# Altium schematic symbol library schematics_library_legacy.schlib: 31 symbols
Pins are listed as number, name and electrical type; pins without a type are passive.

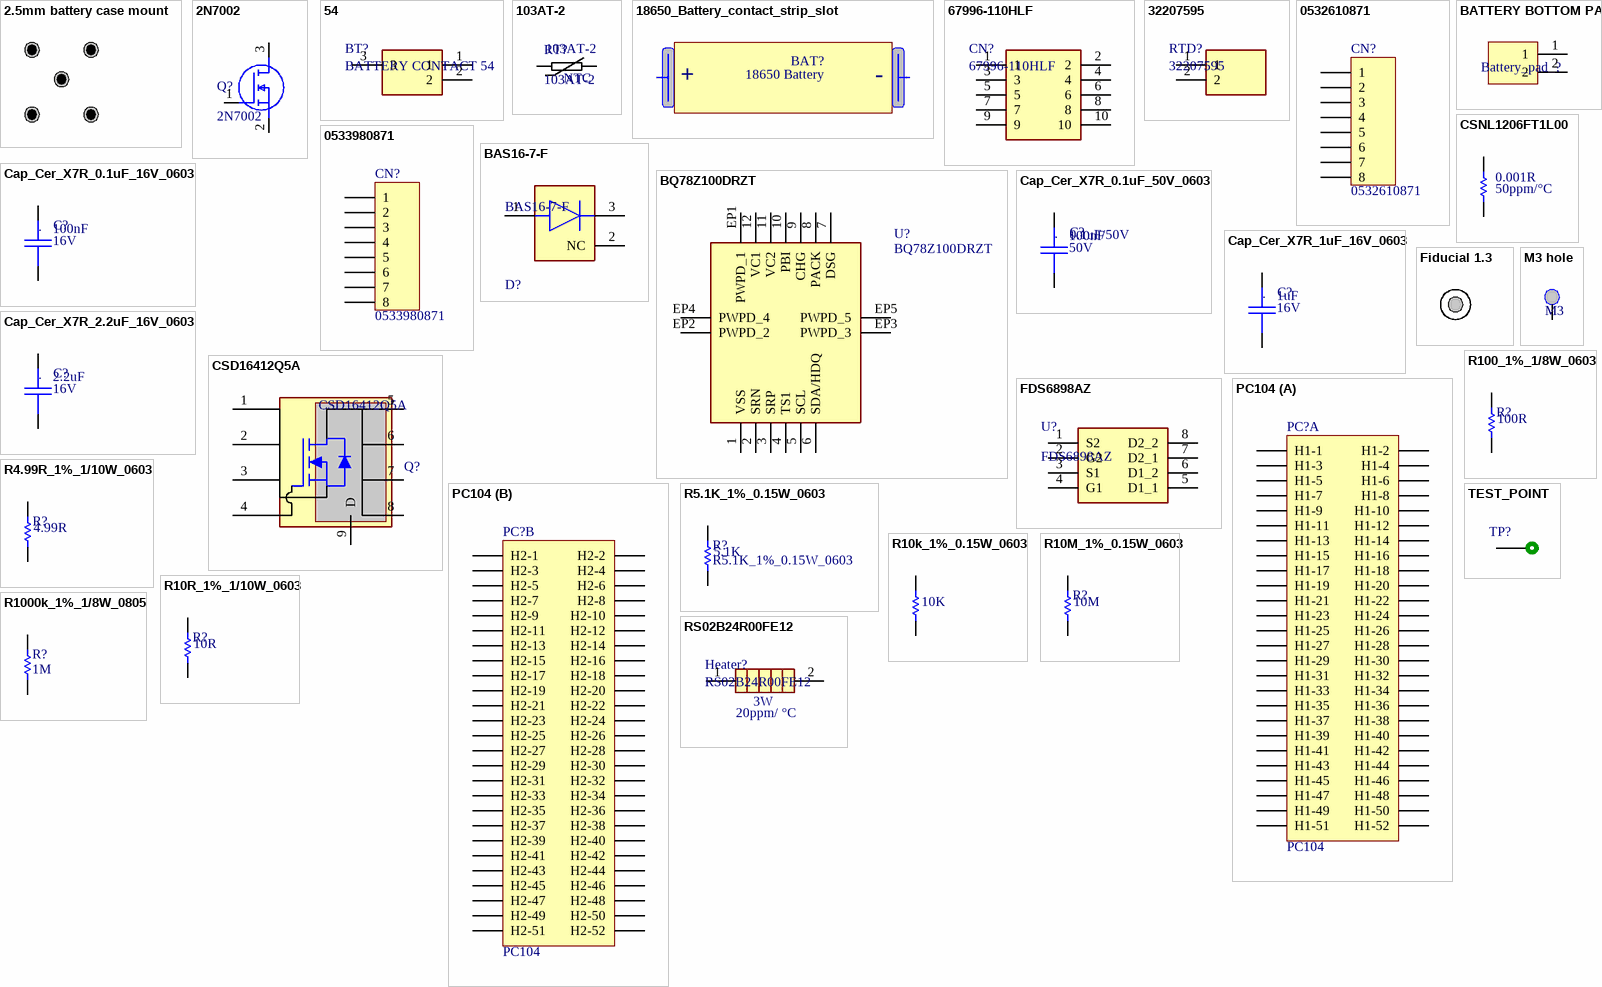
[diagram p0: symbols 2.5mm battery case mount to TEST_POINT]

## 2.5mm battery case mount
designator MEC?  (value not drawn)  (no BOM)
footprint 2.5mm holes battery case mount
pins: 0

## 2N7002
designator Q?
MOSFET N-CH 60V 200MA SOT23-3; Manufacturer_Name: Vishay; Datasheet Link: https://www.diodes.com/assets/Datasheets/ds11303.pdf; Height: 1.2mm; Manufacturer_Part_Number: 2N7002; Mouser Part Number: 781-2N7002; Mouser Price/Stock: https://www.mouser.co.uk/ProductDetail/Vishay-Siliconix/2N7002?qs=xBpwZ0JX2zKeuvZKtdYLZQ%3D%3D; Partnumber: 2N7002
footprint SOT23-3
pins: 1 G, 2 S, 3 D

## 54
designator BT?, comment BATTERY CONTACT 54
Battery Contact Clip 18650 1 Cell PC Pin; Manufacturer_Name: Keystone Electronics; Manufacturer_Part_Number: 54; Datasheet Link: http://www.farnell.com/datasheets/1703960.pdf; Arrow Part Number: 54; Mouser Part Number: 534-54; Mouser Price/Stock: https://www.mouser.co.uk/ProductDetail/Keystone-Electronics/54?qs=73q%2FgRcW4F3NakoJDesViw%3D%3D
footprint 54_BATTERY_CONTACT
pins: 1, 2, 3

## 103AT-2
designator RT?  Type: NTC
Precision NTC Thermistor, 10 kOhm, +/- 1%, 10 mW, -50 to 110 degC, 2-Pin THD, RoHS, Bulk; Brand: Semitec; Packaging: Bulk; Mounting Technology: ThroughHole; Operating Temperature Range: -50Cto+110C; Lead Spacing: 2.54mm; RoHS: True; Manufacturer URL: http://www.semitec.co.jp/english/; Datasheet Version: Rev. A, 02/2007; Length: 17mm; Manufacturer: Semitec; Termination Style: Radial; Tolerance: 1%; Datasheet URL: https://www.rapidonline.com/pdf/61-0500e.pdf; Series: AT; Package Description: 2-Pin Through Hole Device, Body Width 3.8 mm (Max), Pitch 2.54 mm; Width: 3.7mm; Package Reference: 103AT-2; Height: 2.4mm; Partnumber: 103AT-2
footprint SEMI-103AT-2_V (THD, 2-Leads, Body Width 3.8mm (Max), Pitch 2.54mm)
pins: 1, 2

## 18650_Battery_contact_strip_slot
designator BAT?, comment 18650 Battery contact strip slot  (value not drawn)  (no BOM)
Slot using stip contact for 18650 batterie
footprint BATTERY_18650_STRIP_CONTACT
pins: + Positive, - Negative
text: 18650 Battery

## 67996-110HLF
designator CN?
Headers & Wire Housings 2X5P UNSHRD HDR 30 microinch gold; Manufacturer_Name: SAMTEC; Height: 5.84mm; Manufacturer_Part_Number: 67996-110HLF; Mouser Part Number: 649-67996-110HLF; Mouser Price/Stock: https://br.mouser.com/ProductDetail/?qs=zh4O8xspOuxgf2RA9jR3ZQ%3D%3D
footprint HDRV10W64P254_2X5_1270X502X521P
pins: 1, 2, 3, 4, 5, 6, 7, 8, 9, 10

## 32207595
designator RTD?
1 kOhms RTD Platinum (Pt) ±0.3% 3850ppm/°C 1206 (3216 Metric); Manufacturer_Name: Heraeus Nexensos; Datasheet Link: https://componentsearchengine.com/Datasheets/1/32207595.pdf; Height: 0.7mm; Manufacturer_Part_Number: 32207595; Arrow Part Number: 32207595; Mouser Part Number: 956-32207595; Mouser Price/Stock: https://www.mouser.co.uk/ProductDetail/Heraeus-Nexensos/32207595?qs=MQgg6%252BVqoaPj6oznJNIlwg%3D%3D; Partnumber: 32207595
footprint THRMC3216X70N
pins: 1, 2

## 0532610871
designator CN?
PicoBlade 8 Position Right Angle Connector Header Surface Mount 0.049" (1.25mm); PartNumber: 53261-0871; Manufacturer: Molex; Number of Contacts: 8; Contact Resistance: 20mR; Gender: Male; Current Rating: 1A; Voltage Rating: 125V; Insulation Resistance: 100MR; Glow Wire Compliant: Non-compliant; LatestRevisionDate: 17-Jul-2002; LatestRevisionNote: Re-released for DXP Platform.; Publisher: Altium Limited; Supplier 1: Mouser; Supplier Part Number 1: 538-53261-0871; Stock 1: 13055; Pricing 1: 1=1.31, 10=1.15, 100=0.991, 500=0.832, 1000=0.42, 2000=0.367 (USD); Mount: Surface Mount; Contact Plating: Tin; Contact Material: Bronze,Brass,Tin; Color: Beige; Housing Material: Thermoplastic; Min Operating Temperature: -40°C; Max Operating Temperature: 85°C; Termination: Solder; Number of Rows: 1; Orientation: Right Angle; Packaging: Tape and Reel; Number of Positions: 8; Package Quantity: 1000; Number of Circuits: 8; Voltage Rating (AC): 125V; Working Voltage: 125V; Voltage Rating (DC): 125V; Pitch: 1.25mm; Lead Pitch: 1.25mm; Radiation Hardening: No; REACH SVHC: Unknown; Lead Free: Lead Free; Flammability Rating: UL94 V-0; ComponentLink1URL: http://uk.rs-online.com/webdocs/13c4/0900766b813c44c3.pdf?src-supplier=RSComponents; ComponentLink1Description: http://uk.rs-online.com/webdocs/13c4/0900766b813c44c3.pdf?src-supplier=RSComponents; ComponentLink2URL: http://www.farnell.com/datasheets/1632136.pdf?src-supplier=Element14; ComponentLink2Description: http://www.farnell.com/datasheets/1632136.pdf?src-supplier=Element14; ComponentLink3URL: http://www.farnell.com/datasheets/1862905.pdf?src-supplier=Element14; ComponentLink3Description: http://www.farnell.com/datasheets/1862905.pdf?src-supplier=Element14; ComponentLink4URL: http://www.onlinecomponents.com/productFiles/mf-MOL/0532610871_pcb_headers.pdf?src-supplier=Onlinecomponents.com; ComponentLink4Description: http://www.onlinecomponents.com/productFiles/mf-MOL/0532610871_pcb_headers.pdf?src-supplier=Onlinecomponents.com; ComponentLink5URL: http://www.jameco.com/Jameco/Products/ProdDS/1932580.pdf?src-supplier=Jameco; ComponentLink5Description: http://www.jameco.com/Jameco/Products/ProdDS/1932580.pdf?src-supplier=Jameco; ComponentLink6URL: https://www.distrelec.biz/Web/Downloads/74/_e/gh116861-116874_e.pdf?mime=application%2Fpdf&src-supplier=Distrelec; ComponentLink6Description: https://www.distrelec.biz/Web/Downloads/74/_e/gh116861-116874_e.pdf?mime=application%2Fpdf&src-supplier=Distrelec; ComponentLink7URL: http://www.mouser.com/ds/2/276/0532610871_PCB_HEADERS-171054.pdf?src-supplier=Mouser; ComponentLink7Description: http://www.mouser.com/ds/2/276/0532610871_PCB_HEADERS-171054.pdf?src-supplier=Mouser; ComponentLink8URL: http://www.molex.com/webdocs/datasheets/pdf/en-us/0532610871_PCB_HEADERS.pdf?src-supplier=Avnet+Europe; ComponentLink8Description: http://www.molex.com/webdocs/datasheets/pdf/en-us/0532610871_PCB_HEADERS.pdf?src-supplier=Avnet+Europe; ComponentLink9URL: http://www.farnell.com/datasheets/1841157.pdf?src-supplier=Farnell; ComponentLink9Description: http://www.farnell.com/datasheets/1841157.pdf?src-supplier=Farnell; ComponentLink10URL: http://www.molex.com/webdocs/datasheets/pdf/en-us/0532610871_PCB_HEADERS.pdf?src-supplier=Avnet; ComponentLink10Description: http://www.molex.com/webdocs/datasheets/pdf/en-us/0532610871_PCB_HEADERS.pdf?src-supplier=Avnet; Supplier 2: Digi-Key; Supplier Part Number 2: WM7626CT-ND; Stock 2: 24265; Pricing 2: 1=1.64, 10=1.487, 100=1.2749, 500=1.0624 (USD); Manufacturer Part Number: 53261-0871
signal-integrity model Connector
footprint PICOBLADE 8PIN RIGHT ANGLE
pins: 1, 2, 3, 4, 5, 6, 7, 8

## 0533980871
designator CN?
PicoBlade 8 Position Vertical Connector Header Surface Mount 0.049" (1.25mm); PartNumber: 53261-0871; Manufacturer: Molex; Number of Contacts: 8; Contact Resistance: 20mR; Gender: Male; Current Rating: 1A; Voltage Rating: 125V; Insulation Resistance: 100MR; Glow Wire Compliant: Non-compliant; LatestRevisionDate: 17-Jul-2002; LatestRevisionNote: Re-released for DXP Platform.; Publisher: Altium Limited; Supplier 1: Mouser; Supplier Part Number 1: 538-53261-0871; Stock 1: 13055; Pricing 1: 1=1.31, 10=1.15, 100=0.991, 500=0.832, 1000=0.42, 2000=0.367 (USD); Mount: Surface Mount; Contact Plating: Tin; Contact Material: Bronze,Brass,Tin; Color: Beige; Housing Material: Thermoplastic; Min Operating Temperature: -40°C; Max Operating Temperature: 85°C; Termination: Solder; Number of Rows: 1; Orientation: Right Angle; Packaging: Tape and Reel; Number of Positions: 8; Package Quantity: 1000; Number of Circuits: 8; Voltage Rating (AC): 125V; Working Voltage: 125V; Voltage Rating (DC): 125V; Pitch: 1.25mm; Lead Pitch: 1.25mm; Radiation Hardening: No; REACH SVHC: Unknown; Lead Free: Lead Free; Flammability Rating: UL94 V-0; ComponentLink1URL: http://uk.rs-online.com/webdocs/13c4/0900766b813c44c3.pdf?src-supplier=RSComponents; ComponentLink1Description: http://uk.rs-online.com/webdocs/13c4/0900766b813c44c3.pdf?src-supplier=RSComponents; ComponentLink2URL: http://www.farnell.com/datasheets/1632136.pdf?src-supplier=Element14; ComponentLink2Description: http://www.farnell.com/datasheets/1632136.pdf?src-supplier=Element14; ComponentLink3URL: http://www.farnell.com/datasheets/1862905.pdf?src-supplier=Element14; ComponentLink3Description: http://www.farnell.com/datasheets/1862905.pdf?src-supplier=Element14; ComponentLink4URL: http://www.onlinecomponents.com/productFiles/mf-MOL/0532610871_pcb_headers.pdf?src-supplier=Onlinecomponents.com; ComponentLink4Description: http://www.onlinecomponents.com/productFiles/mf-MOL/0532610871_pcb_headers.pdf?src-supplier=Onlinecomponents.com; ComponentLink5URL: http://www.jameco.com/Jameco/Products/ProdDS/1932580.pdf?src-supplier=Jameco; ComponentLink5Description: http://www.jameco.com/Jameco/Products/ProdDS/1932580.pdf?src-supplier=Jameco; ComponentLink6URL: https://www.distrelec.biz/Web/Downloads/74/_e/gh116861-116874_e.pdf?mime=application%2Fpdf&src-supplier=Distrelec; ComponentLink6Description: https://www.distrelec.biz/Web/Downloads/74/_e/gh116861-116874_e.pdf?mime=application%2Fpdf&src-supplier=Distrelec; ComponentLink7URL: http://www.mouser.com/ds/2/276/0532610871_PCB_HEADERS-171054.pdf?src-supplier=Mouser; ComponentLink7Description: http://www.mouser.com/ds/2/276/0532610871_PCB_HEADERS-171054.pdf?src-supplier=Mouser; ComponentLink8URL: http://www.molex.com/webdocs/datasheets/pdf/en-us/0532610871_PCB_HEADERS.pdf?src-supplier=Avnet+Europe; ComponentLink8Description: http://www.molex.com/webdocs/datasheets/pdf/en-us/0532610871_PCB_HEADERS.pdf?src-supplier=Avnet+Europe; ComponentLink9URL: http://www.farnell.com/datasheets/1841157.pdf?src-supplier=Farnell; ComponentLink9Description: http://www.farnell.com/datasheets/1841157.pdf?src-supplier=Farnell; ComponentLink10URL: http://www.molex.com/webdocs/datasheets/pdf/en-us/0532610871_PCB_HEADERS.pdf?src-supplier=Avnet; ComponentLink10Description: http://www.molex.com/webdocs/datasheets/pdf/en-us/0532610871_PCB_HEADERS.pdf?src-supplier=Avnet; Supplier 2: Digi-Key; Supplier Part Number 2: WM7626CT-ND; Stock 2: 24265; Pricing 2: 1=1.64, 10=1.487, 100=1.2749, 500=1.0624 (USD); Manufacturer Part Number: 53261-0871
signal-integrity model Connector
footprint PICOBLADE 8PIN VERTICAL
pins: 1, 2, 3, 4, 5, 6, 7, 8

## BAS16-7-F
designator D?
DIODE GEN PURP 75V 200MA SOT23-3; Manufacturer: Diodes Inc.; Capacitance: 2pF; Peak Reverse Current: 1uA; Value: 2pF; Forward Current: 300mA; Standoff Height: 0.013mm; Max Junction Temp: +150°C; Max Surge Forward Current: 1A; Digikey Description: DIODE GEN PURP 75V 200MA SOT23-3; Reverse Voltage: 75V; RoHS: TRUE; Device Class L3: Rectifier Diodes; Temperature Range High: +150°C; Max Repetitive Reverse Voltage: 75V; Category: Diode; Ipc Land Pattern Name: SOT92P240X102-3; Manufacturer Part Number: BAS16-7-F; ComponentLink2Description: Datasheet; Lead Free: Yes; Device Class L2: Diodes; Temperature: -65°C to +150°C; Mouser Description: Diodes - General Purpose, Power, Switching 75V 350mW 0; Automotive: No; Device Class L1: Discrete Semiconductors; Temperature Range Low: -65°C; Octopart: https://octopart.com/bas16-7-f-diodes+inc.-325895; ComponentLink2URL: https://www.diodes.com/assets/Datasheets/ds12003.pdf; Height: 1.1mm; Footprint Url: https://www.diodes.com/assets/Package-Files/SOT23.pdf; Package: SOT23
footprint FP-SOT23-IPC_A
footprint FP-SOT23-MFG
footprint FP-SOT23-IPC_C
footprint FP-SOT23-IPC_B
pins: 1 A, 2 NC, 3 C

## BATTERY BOTTOM PAD
designator Battery_pad_?  (no BOM)
Battery
footprint BATTERY (Battery)
pins: 1, 2

## BQ78Z100DRZT
designator U?
Battery Multi-Function Controller IC Lithium Ion/Polymer 12-SON (2.5x4); Manufacturer_Name: Texas Instruments; Datasheet Link: http://www.ti.com/lit/gpn/BQ78Z100; Height: 0.9mm; Manufacturer_Part_Number: BQ78Z100DRZT; Mouser Part Number: 595-BQ78Z100DRZT; Mouser Price/Stock: https://www.mouser.co.uk/ProductDetail/Texas-Instruments/BQ78Z100DRZT?qs=OjC2D0sG%2F26pqtddZWniKw%3D%3D; Arrow Part Number: BQ78Z100DRZT; Arrow Price/Stock: https://www.arrow.com/en/products/bq78z100drzt/texas-instruments; Supplier 1: Digi-Key; Supplier Part Number 1: 296-42996-1-ND
footprint BQ78Z100DRZT
pins: 1 VSS, 2 SRN, 3 SRP, 4 TS1, 5 SCL, 6 SDA/HDQ, 7 DSG, 8 PACK, 9 CHG, 10 PBI, 11 VC2, 12 VC1, EP1 PWPD_1, EP2 PWPD_2, EP3 PWPD_3, EP4 PWPD_4, EP5 PWPD_5

## Cap_Cer_X7R_0.1uF_16V_0603
designator C?  Voltage Rating: 16V  Capacitance: 100nF  (hidden comment: Cap_Cer_X7R_0.1uF_16V_0603)
CAP CER 0.1UF 16V X7R 0603; Manufacturer: Samsung; Manufacturer Part Number: CL10B104KO8WPNC; Tolerance: 10%; Supplier 1: Digi-Key; Supplier Part Number 1: 1276-6582-1-ND; RoHS: No; Category: Ceramic Capacitors; Stock 1: 515701; Pricing 1: 1=0,10000, 10=0,04200, 50=0,02280, 100=0,01860, 500=0,01328, 1000=0,01044 (USD); Mount: Surface Mount; Case/Package: 0603; Case Code (Imperial): 0603; Case Code (Metric): 1608; Min Operating Temperature: -55°C; Max Operating Temperature: 125°C; Packaging: Tape and Reel; Features: Soft Termination; Length: 0.063inch; Width: 0.031inch; Thickness: 0.035inch; Ratings: AEC-Q200; ComponentLink1URL: http://www.samsungsem.com/servlet/FileDownload?filename=productcatalog/pdf/MLCC.pdf&src-supplier=Avnet; ComponentLink1Description: http://www.samsungsem.com/servlet/FileDownload?filename=productcatalog/pdf/MLCC.pdf&src-supplier=Avnet; ComponentLink2URL: http://www.samsungsem.com/kr/support/product-search/mlcc/CL10B104KO8WPNC.jsp?src-supplier=Digi-Key; ComponentLink2Description: http://www.samsungsem.com/kr/support/product-search/mlcc/CL10B104KO8WPNC.jsp?src-supplier=Digi-Key
footprint CC0603 (TDK mlccspec_commercial_general_midvoltage_en.pdf)
pins: 1, 2
text: .

## Cap_Cer_X7R_0.1uF_50V_0603
designator C?, comment 0.1uF/50V  Voltage Rating (DC): 50V  Capacitance: 100nF
CAP CER 0.1UF 50V 10% X7R 0603; Partnumber: CC0603KPX7R9BB104; Manufacturer: Yageo; Supplier 1: Mouser; Supplier Part Number 1: 603-CC603KPX7R9BB104; Stock 1: 5712768; Pricing 1: 1=0.1, 10=0.065, 100=0.02, 1000=0.016, 2500=0.013, 10000=0.01 (USD); Mount: Surface Mount; Case/Package: 0603; Number of Pins: 2; Weight: 7.1E-05oz; Case Code (Imperial): 0603; Case Code (Metric): 1608; Min Operating Temperature: -55°C; Max Operating Temperature: 125°C; Tolerance: 10%; Dielectric: X7R; Packaging: Tape and Reel; Voltage Rating: 50V; Termination: SMD/SMT; Composition: Ceramic; Length: 1.6mm; Height: 0.8mm; Width: 0.031inch; Thickness: 0.035inch; Depth: 0.8mm; Radiation Hardening: No; Lead Free: Lead Free; Halogen Free: Halogen Free; ComponentLink1URL: https://www.verical.com/server-webapp/html/getDatasheet?partID=653026&src-supplier=Verical; ComponentLink1Description: https://www.verical.com/server-webapp/html/getDatasheet?partID=653026&src-supplier=Verical; Supplier 2: Digi-Key; Supplier Part Number 2: 311-3567-1-ND; Stock 2: 0; Pricing 2: 1=0.1, 10=0.066, 50=0.036, 100=0.0293, 500=0.02094, 1000=0.01646, 2500=0.01496, 5000=0.01376 (USD); Manufacturer Part Number: CC0603KPX7R9BB104
footprint CC0603 (TDK mlccspec_commercial_general_midvoltage_en.pdf)
pins: 1, 2
text: .

## Cap_Cer_X7R_1uF_16V_0603
designator C?  Voltage Rating: 16V  Capacitance: 1uF  (hidden comment: Cap_Cer_X7R_1uF_16V_0603)
SMD Multilayer Ceramic Capacitor,1uF, 16 V, 0603 [1608 Metric], 10%, X7R, CL Series; Manufacturer: Samsung; Manufacturer Part Number: CL10B105KO8VPNC; Supplier 1: Digi-Key; RoHS: Yes; Category: Ceramic Capacitors; Stock 1: 897530; Pricing 1: 1=0,18000, 10=0,12900, 50=0,07340, 100=0,06080, 500=0,04260, 1000=0,03527 (USD); Mount: Surface Mount; Case/Package: 0603; Case Code (Metric): 1608; Case Code (Imperial): 0603; Min Operating Temperature: -55°C; Max Operating Temperature: 125°C; Tolerance: 10%; Packaging: Tape and Reel; Dielectric: X7R; Features: Soft Termination; Length: 0.063inch; Width: 0.031inch; Thickness: 0.035inch; Depth: 0.8mm; Ratings: AEC-Q200; Lead Free: Lead Free; RoHS Compliant: Yes; ComponentLink1URL: http://www.farnell.com/datasheets/2710686.pdf?src-supplier=Farnell; ComponentLink1Description: http://www.farnell.com/datasheets/2710686.pdf?src-supplier=Farnell; ComponentLink2URL: http://www.samsungsem.com/servlet/FileDownload?type=spec&file=CL10B105KO8VPNC.pdf&src-supplier=Avnet; ComponentLink2Description: http://www.samsungsem.com/servlet/FileDownload?type=spec&file=CL10B105KO8VPNC.pdf&src-supplier=Avnet; ComponentLink3URL: http://www.samsungsem.com/kr/support/product-search/mlcc/CL10B105KO8VPNC.jsp?src-supplier=Digi-Key; ComponentLink3Description: http://www.samsungsem.com/kr/support/product-search/mlcc/CL10B105KO8VPNC.jsp?src-supplier=Digi-Key; ComponentLink4URL: http://www.farnell.com/datasheets/2710686.pdf?src-supplier=Newark; ComponentLink4Description: http://www.farnell.com/datasheets/2710686.pdf?src-supplier=Newark; ComponentLink5URL: http://www.farnell.com/datasheets/2710686.pdf?src-supplier=Element14; ComponentLink5Description: http://www.farnell.com/datasheets/2710686.pdf?src-supplier=Element14; ComponentLink6URL: http://components.arrow.com/part/dataview/0323_06933310?src-supplier=Arrow+Europe; ComponentLink6Description: http://components.arrow.com/part/dataview/0323_06933310?src-supplier=Arrow+Europe; Supplier Part Number 1: 1276-6613-1-ND
footprint CC0603 (TDK mlccspec_commercial_general_midvoltage_en.pdf)
pins: 1, 2
text: .

## Cap_Cer_X7R_2.2uF_16V_0603
designator C?  Voltage Rating (DC): 16V  Capacitance: 2.2uF  (hidden comment: Cap_Cer_X7R_2.2uF_16V_0603)
CAP CER 2.2UF 16V X7S 0603; Manufacturer: TDK; Manufacturer Part Number: CGA3E1X7S1C225K080AC; Tolerance: 10%; Supplier 1: Digi-Key; RoHS: Yes; Category: Ceramic Capacitors; Stock 1: 29; Pricing 1: 1=0,27000, 10=0,18500, 50=0,12320, 100=0,10470, 500=0,07392, 1000=0,06468 (USD); Mount: Surface Mount; Case/Package: 0603; Case Code (Metric): 1608; Case Code (Imperial): 0603; Min Operating Temperature: -55°C; Max Operating Temperature: 125°C; Package Quantity: 1; Packaging: Cut Tape; Voltage Rating: 16V; Dielectric: X7S; Length: 0.063inch; Width: 0.031inch; Thickness: 0.035inch; Ratings: AEC-Q200; REACH SVHC: No SVHC; Lead Free: Lead Free; RoHS Compliant: Yes; ComponentLink1URL: http://www.farnell.com/datasheets/2292075.pdf?src-supplier=Farnell; ComponentLink1Description: http://www.farnell.com/datasheets/2292075.pdf?src-supplier=Farnell; ComponentLink2URL: https://product.tdk.com/info/en/catalog/spec/mlccspec_automotive_general_midvoltage_en.pdf?src-supplier=Digi-Key; ComponentLink2Description: https://product.tdk.com/info/en/catalog/spec/mlccspec_automotive_general_midvoltage_en.pdf?src-supplier=Digi-Key; ComponentLink3URL: http://www.farnell.com/datasheets/1936565.pdf?src-supplier=Element14; ComponentLink3Description: http://www.farnell.com/datasheets/1936565.pdf?src-supplier=Element14; ComponentLink4URL: https://product.tdk.com/info/en/catalog/datasheets/mlcc_automotive_general_en.pdf?src-supplier=Digi-Key; ComponentLink4Description: https://product.tdk.com/info/en/catalog/datasheets/mlcc_automotive_general_en.pdf?src-supplier=Digi-Key; ComponentLink5URL: http://product.tdk.com/en/catalog/datasheets/mlcc_automotive_general_en.pdf?src-supplier=Avnet; ComponentLink5Description: http://product.tdk.com/en/catalog/datasheets/mlcc_automotive_general_en.pdf?src-supplier=Avnet; ComponentLink6URL: http://www.farnell.com/datasheets/2292075.pdf?src-supplier=Newark; ComponentLink6Description: http://www.farnell.com/datasheets/2292075.pdf?src-supplier=Newark; Supplier Part Number 1: 445-16104-1-ND
footprint CC0603 (TDK mlccspec_commercial_general_midvoltage_en.pdf)
pins: 1, 2
text: .

## CSD16412Q5A
designator Q?
N-Channel 25 V 14A (Ta), 52A (Tc) 3W (Ta) Surface Mount 8-VSONP (5x6); Manufacturer: Texas Instruments; Element Configuration: Single; Rds On Max: 11mR; Input Capacitance: 530pF; Rise Time: 7.1ns; Drain to Source Voltage (Vdss): 25V; Fall Time: 3.3ns; Drain to Source Resistance: 9mR; Turn-Off Delay Time: 5.7ns; Gate to Source Voltage (Vgs): 16V; Turn-On Delay Time: 5.5ns; Number of Elements: 1; Nominal Vgs: 2V; Supplier 1: Digi-Key; Manufacturer Part Number: CSD16412Q5A; RoHS: Yes; Category: MOSFETs; Stock 1: 1817; Pricing 1: 1=1,00000, 10=0,86500, 25=0,82520, 100=0,59900, 500=0,50046, 1000=0,42592 (USD); Mount: Surface Mount; Case/Package: SON; Number of Pins: 8; Contact Plating: Tin,Matte; Min Operating Temperature: -55°C; Max Operating Temperature: 150°C; Package Quantity: 1; Packaging: Tape and Reel; Max Power Dissipation: 3W; Series: NexFET™; Power Dissipation: 3W; Continuous Drain Current (ID): 52A; Drain to Source Breakdown Voltage: 25V; Polarity: N-CHANNEL; Dual Supply Voltage: 25V; Threshold Voltage: 2V; Termination: SMD/SMT; Length: 5.8mm; Width: 5mm; Height: 1.1mm; Radiation Hardening: No; RoHS Compliant: Yes; REACH SVHC: No SVHC; Lead Free: Contains Lead; ComponentLink1URL: https://datasheet.ciiva.com/6387/csd16412q5a-6387536.pdf?src-supplier=Digi-Key; ComponentLink1Description: https://datasheet.ciiva.com/6387/csd16412q5a-6387536.pdf?src-supplier=Digi-Key; ComponentLink2URL: https://datasheet.ciiva.com/14423/slps207a-14423489.pdf?src-supplier=Avnet; ComponentLink2Description: https://datasheet.ciiva.com/14423/slps207a-14423489.pdf?src-supplier=Avnet; ComponentLink3URL: https://datasheet.ciiva.com/1255/csd16412q5a-1255298.pdf?src-supplier=Newark; ComponentLink3Description: https://datasheet.ciiva.com/1255/csd16412q5a-1255298.pdf?src-supplier=Newark; ComponentLink4URL: https://datasheet.ciiva.com/4438/slps207a-122183-4438713.pdf?src-supplier=Mouser; ComponentLink4Description: https://datasheet.ciiva.com/4438/slps207a-122183-4438713.pdf?src-supplier=Mouser; ComponentLink5URL: https://datasheet.ciiva.com/5751/483980-5751769.pdf?src-supplier=Farnell; ComponentLink5Description: https://datasheet.ciiva.com/5751/483980-5751769.pdf?src-supplier=Farnell; ComponentLink6URL: https://datasheet.ciiva.com/6387/csd16412q5a-6387530.pdf?src-supplier=Digi-Key; ComponentLink6Description: https://datasheet.ciiva.com/6387/csd16412q5a-6387530.pdf?src-supplier=Digi-Key; ComponentLink7URL: https://datasheet.ciiva.com/14192/slps207a-14192890.pdf?src-supplier=Avnet; ComponentLink7Description: https://datasheet.ciiva.com/14192/slps207a-14192890.pdf?src-supplier=Avnet; ComponentLink8URL: https://datasheet.ciiva.com/6387/csd16412q5a-6387532.pdf?src-supplier=Digi-Key; ComponentLink8Description: https://datasheet.ciiva.com/6387/csd16412q5a-6387532.pdf?src-supplier=Digi-Key; Supplier Part Number 1: 296-24256-1-ND
footprint Q5A
pins: 1 S, 2 S, 3 S, 4 G, 5 D, 6 D, 7 D, 8 D, 9 D

## CSNL1206FT1L00
designator R?  value 0.001R  Temperature Coefficient: 50ppm/°C  (hidden comment: CSNL1206FT1L00)
Res Metal Foil 1206 0.001 Ohm 1% 1W 50ppm/C Molded SMD SMD Plastic T/R; Manufacturer: Stackpole Electronics; Resistance: 1mR; Supplier 1: Digi-Key; Manufacturer Part Number: CSNL1206FT1L00; RoHS: Yes; Category: Chip SMD Resistors; Stock 1: 119231; Pricing 1: 1=0,59000, 10=0,49000, 25=0,42000, 50=0,37800, 100=0,32900, 250=0,29400, 500=0,23800, 1000=0,19250 (USD); Mount: Surface Mount; Case/Package: 1206; Case Code (Metric): 3216; Case Code (Imperial): 1206; Contact Plating: Tin,Matte; Size Code: 1206; Min Operating Temperature: -55°C; Max Operating Temperature: 170°C; Tolerance: 1%; Packaging: Tape and Reel; Power Rating: 1W; Resistor Type: Metal Foil; Number of Terminations: 2; Max Power Dissipation: 1W; Features: Moisture Resistant; Series: CSNL; Length: 0.126inch; Width: 0.063inch; Height: 0.035inch; Radiation Hardening: No; Lead Free: Lead Free; RoHS Compliant: Yes; ComponentLink1URL: https://www.seielect.com/Catalog/SEI-csnl.pdf?src-supplier=Digi-Key; ComponentLink1Description: https://www.seielect.com/Catalog/SEI-csnl.pdf?src-supplier=Digi-Key; ComponentLink2URL: https://www.seielect.com/catalog/SEI-Packaging.pdf?src-supplier=Digi-Key; ComponentLink2Description: https://www.seielect.com/catalog/SEI-Packaging.pdf?src-supplier=Digi-Key; ComponentLink3URL: https://www.seielect.com/Catalog/SEI-CSNL.pdf?src-supplier=Avnet; ComponentLink3Description: https://www.seielect.com/Catalog/SEI-CSNL.pdf?src-supplier=Avnet; ComponentLink4URL: http://www.seielect.com/Catalog/SEI-CSNL.pdf?src-supplier=Future+Electronics; ComponentLink4Description: http://www.seielect.com/Catalog/SEI-CSNL.pdf?src-supplier=Future+Electronics; Supplier Part Number 1: CSNL1206FT1L00CT-ND
footprint R1206
pins: 1, 2

## FDS6898AZ
designator U?
Mosfet Array 2 N-Channel (Dual) 20V 9.4A 900mW Surface Mount 8-SOIC; Manufacturer_Name: ON Semiconductor; Datasheet Link: https://componentsearchengine.com/Datasheets/5/FDS6898AZ.pdf; Height: 1.75mm; Manufacturer_Part_Number: FDS6898AZ; Mouser Part Number: 512-FDS6898AZ; Mouser Price/Stock: https://www.mouser.co.uk/ProductDetail/ON-Semiconductor-Fairchild/FDS6898AZ?qs=M37yUtvuNLyt4PLCZo7LIg%3D%3D; Arrow Part Number: FDS6898AZ; Arrow Price/Stock: https://www.arrow.com/en/products/fds6898az/on-semiconductor; Supplier 1: Digi-Key; Supplier Part Number 1: FDS6898AZCT-ND
footprint SOIC127P600X175-8N
pins: 1 S2, 2 G2, 3 S1, 4 G1, 5 D1_1, 6 D1_2, 7 D2_1, 8 D2_2

## Fiducial 1.3
designator FD?  (value not drawn)  (no BOM)
Fiducial 1.3mm
footprint Fiducial 1.3mm

## M3 hole
designator MEC?, comment M3  (no BOM)
M3 hole
footprint M3 hole
pins: 0

## PC104
designator PC?
Partnumber: SSW-126-01-G-D; Manufacturer: Samtec; Gender: Receptacle; Number of Contacts: 52; Connector Type: Receptacle,Socket; Mating Cycles: 100; Max Current Rating: 5.5A; Contact Resistance: 10mR; Max Voltage Rating (AC): 550V; Pitch: 2.54mm; Row Spacing: 0.1inch; Supplier 1: Mouser; Supplier Part Number 1: 200-SSW12601GD; Stock 1: 86; Pricing 1: 1=6.95, 10=5.8, 100=4.93, 250=4.4, 500=4.05, 1000=3.8 (USD); Mount: Through Hole; Contact Plating: Gold; Contact Material: Bronze; Color: Black; Housing Color: Black; Housing Material: Polymer; Min Operating Temperature: -55°C; Max Operating Temperature: 125°C; Number of Rows: 2; Termination: Solder; Packaging: Bulk; Number of Positions: 52; Orientation: Straight; Length: 66.55mm; Width: 4.95mm; Depth: 4.95mm; Lead Free: Lead Free; REACH SVHC: No SVHC; ComponentLink1URL: http://suddendocs.samtec.com/prints/ssw-1xx-xx-xxx-x-xx-xxx-xx-mkt.pdf?src-supplier=Digi-Key; ComponentLink1Description: http://suddendocs.samtec.com/prints/ssw-1xx-xx-xxx-x-xx-xxx-xx-mkt.pdf?src-supplier=Digi-Key; Supplier 2: Digi-Key; Supplier Part Number 2: SAM1208-26-ND; Stock 2: 0; Pricing 2: 1=6.69, 10=6.415, 25=5.8576, 50=5.5786, 100=5.2996, 250=4.74176, 500=4.46284 (USD); Manufacturer Part Number: SSW-126-01-G-D
footprint PC104_EPS (Connector; Header; 26x4 Position)
footprint PC104 (Connector; Header; 26x4 Position)
part A pins: H1-1, H1-2, H1-3, H1-4, H1-5, H1-6, H1-7, H1-8, H1-9, H1-10, H1-11, H1-12, H1-13, H1-14, H1-15, H1-16, H1-17, H1-18, H1-19, H1-20, H1-21, H1-22, H1-23, H1-24, H1-25, H1-26, H1-27, H1-28, H1-29, H1-30, H1-31, H1-32, H1-33, H1-34, H1-35, H1-36, H1-37, H1-38, H1-39, H1-40, H1-41, H1-42, H1-43, H1-44, H1-45, H1-46, H1-47, H1-48, H1-49, H1-50, H1-51, H1-52
part B pins: H2-1, H2-2, H2-3, H2-4, H2-5, H2-6, H2-7, H2-8, H2-9, H2-10, H2-11, H2-12, H2-13, H2-14, H2-15, H2-16, H2-17, H2-18, H2-19, H2-20, H2-21, H2-22, H2-23, H2-24, H2-25, H2-26, H2-27, H2-28, H2-29, H2-30, H2-31, H2-32, H2-33, H2-34, H2-35, H2-36, H2-37, H2-38, H2-39, H2-40, H2-41, H2-42, H2-43, H2-44, H2-45, H2-46, H2-47, H2-48, H2-49, H2-50, H2-51, H2-52

## R4.99R_1%_1/10W_0603
designator R?  Resistance: 4.99R  (hidden comment: R4.99R_1%_1/10W_0603)
4.99 Ohms ±1% 0.1W, 1/10W Chip Resistor 0603 (1608 Metric) Automotive AEC-Q200 Thick Film; Manufacturer: Vishay Dale; Manufacturer Part Number: CRCW06034R99FNEA; Power Rating: 100mW; Voltage Rating: 75V; Temperature Coefficient: 200ppm/°C; Supplier 1: Digi-Key; RoHS: Yes; Category: Chip SMD Resistors; Stock 1: 31663; Pricing 1: 1=0,10000, 10=0,05800, 100=0,02340, 1000=0,01051, 2500=0,00912 (USD); Case/Package: 0603; Number of Pins: 2; Weight: 7.1E-05oz; Case Code (Imperial): 0603; Case Code (Metric): 1608; Contact Plating: Tin; Min Operating Temperature: -55°C; Max Operating Temperature: 155°C; Tolerance: 1%; Packaging: Tape and Reel; Termination: SMD/SMT; Package Quantity: 10; Resistor Type: Thick Film; Number of Terminations: 2; Max Power Dissipation: 100mW; Voltage Rating (DC): 75V; Features: Automotive AEC-Q200; Series: CRCW; Technology: THICK FILM; Resistance Tolerance: 1%; Length: 0.061inch; Width: 0.85mm; Height: 0.45mm; Depth: 0.85mm; REACH SVHC: Unknown; Lead Free: Lead Free; RoHS Compliant: Yes; ComponentLink1URL: https://datasheet.ciiva.com/2562/dcrcwe3-2562730.pdf?src-supplier=Digi-Key; ComponentLink1Description: https://datasheet.ciiva.com/2562/dcrcwe3-2562730.pdf?src-supplier=Digi-Key; ComponentLink2URL: https://datasheet.ciiva.com/2562/dcrcwe3-2562731.pdf?src-supplier=Digi-Key; ComponentLink2Description: https://datasheet.ciiva.com/2562/dcrcwe3-2562731.pdf?src-supplier=Digi-Key; ComponentLink3URL: https://datasheet.ciiva.com/2562/dcrcwe3-2562732.pdf?src-supplier=Digi-Key; ComponentLink3Description: https://datasheet.ciiva.com/2562/dcrcwe3-2562732.pdf?src-supplier=Digi-Key; ComponentLink4URL: https://datasheet.ciiva.com/6195/125364-6195084.pdf?src-supplier=Farnell; ComponentLink4Description: https://datasheet.ciiva.com/6195/125364-6195084.pdf?src-supplier=Farnell; ComponentLink5URL: https://datasheet.ciiva.com/16758/70201119-16758280.pdf?src-supplier=Allied+Electronics; ComponentLink5Description: https://datasheet.ciiva.com/16758/70201119-16758280.pdf?src-supplier=Allied+Electronics; ComponentLink6URL: https://datasheet.ciiva.com/7792/125364-7792319.pdf?src-supplier=Element14; ComponentLink6Description: https://datasheet.ciiva.com/7792/125364-7792319.pdf?src-supplier=Element14; ComponentLink7URL: https://datasheet.ciiva.com/22872/70201119-22872167.pdf?src-supplier=Allied+Electronics; ComponentLink7Description: https://datasheet.ciiva.com/22872/70201119-22872167.pdf?src-supplier=Allied+Electronics; Supplier Part Number 1: 541-4.99HCT-ND
footprint R0603
pins: 1, 2

## R5.1K_1%_0.15W_0603
designator R?  value 5.1K
5.1 kOhms ±1% 0.125W, 1/8W Chip Resistor 0603 (1608 Metric) Anti-Sulfur Thin Film; Manufacturer_Name: Vishay; Manufacturer_Part_Number: MCT06030C5101FP500; Datasheet Link: http://www.vishay.com/docs/28705/mcx0x0xpro.pdf; Height: 0.55mm; Supplier 1: Digi-Key; Supplier Part Number 1: 749-1663-1-ND; Partnumber: MCT06030C5101FP500
footprint R0603
pins: 1, 2

## R10k_1%_0.15W_0603
designator R?  value 10K  (hidden comment: R10k_1%_0.15W_0603)
10 kOhms ±1% 0.15W Chip Resistor 0603 (1608 Metric) Anti-Sulfur, Automotive AEC-Q200 Thin Film; Partnumber: MCT0603MC1002FP500; Supplier 1: Digi-Key; Supplier Part Number 1: MCT0603-10.0K-MFCT-ND
footprint R0603
pins: 1, 2

## R10M_1%_0.15W_0603
designator R?  value 10M  (hidden comment: R10M_1%_0.15W_0603)
10 MOhms ±1% 0.125W, 1/8W Chip Resistor 0603 (1608 Metric) Anti-Sulfur Thin Film; Manufacturer_Name: Vishay; Manufacturer_Part_Number: MCT06030C1005FP500; Datasheet Link: http://www.vishay.com/docs/28705/mcx0x0xpro.pdf; Height: 0.55mm; Mouser Part Number: 594-MCT06030C1005FP5; Mouser Price/Stock: https://www.mouser.co.uk/ProductDetail/Vishay-Beyschlag/MCT06030C1005FP500?qs=Sk19l0%2FxcWkhTReAJ%2FgU6w%3D%3D; Arrow Part Number: MCT06030C1005FP500; Arrow Price/Stock: https://www.arrow.com/en/products/mct06030c1005fp500/vishay; Supplier 1: Digi-Key; Supplier Part Number 1: MCT0603-10.0M-CFCT-ND; Partnumber: MCT06030C1005FP500
footprint R0603
pins: 1, 2

## R10R_1%_1/10W_0603
designator R?  Resistance: 10R  (hidden comment: R10R_1%_1/10W_0603)
10 Ohms ±1% 0.1W, 1/10W Chip Resistor 0603 (1608 Metric) Automotive AEC-Q200 Thick Film; Manufacturer: Vishay; Manufacturer Part Number: CRCW060310R0FKEA; Power Rating: 100mW; Temperature Coefficient: 100ppm/°C; Voltage Rating: 75V; Supplier 1: Digi-Key; RoHS: Yes; Category: Chip SMD Resistors; Stock 1: 168376; Pricing 1: 1=0,10000, 10=0,03400, 100=0,01390, 1000=0,00624, 2500=0,00542 (USD); Mount: Surface Mount; Case/Package: 0603; Number of Pins: 2; Contact Plating: Tin; Weight: 7.1E-05oz; Case Code (Metric): 1608; Case Code (Imperial): 0603; Size Code: 0603; Min Operating Temperature: -55°C; Max Operating Temperature: 155°C; Tolerance: 1%; Resistor Type: Thick Film; Packaging: Tape and Reel; Package Quantity: 10; Number of Terminations: 2; Termination: SMD/SMT; Max Power Dissipation: 100mW; Voltage Rating (DC): 75V; Features: Automotive AEC-Q200; Series: CRCW; Construction: Rectangular; Resistance Tolerance: 1%; Technology: THICK FILM; Length: 1.55mm; Width: 0.033inch; Height: 0.45mm; Depth: 0.85mm; Lead Free: Lead Free; RoHS Compliant: Yes; REACH SVHC: Unknown; Military Standard: Not; ComponentLink1URL: https://datasheet.ciiva.com/11808/0900766b80d98afc-11808660.pdf?src-supplier=RSComponents; ComponentLink1Description: https://datasheet.ciiva.com/11808/0900766b80d98afc-11808660.pdf?src-supplier=RSComponents; ComponentLink2URL: https://datasheet.ciiva.com/2465/dcrcwe3-2465699.pdf?src-supplier=Digi-Key; ComponentLink2Description: https://datasheet.ciiva.com/2465/dcrcwe3-2465699.pdf?src-supplier=Digi-Key; ComponentLink3URL: https://datasheet.ciiva.com/2465/dcrcwe3-2465700.pdf?src-supplier=Digi-Key; ComponentLink3Description: https://datasheet.ciiva.com/2465/dcrcwe3-2465700.pdf?src-supplier=Digi-Key; ComponentLink4URL: https://datasheet.ciiva.com/16740/dcrcwe3-16740661.pdf?src-supplier=Future+Electronics; ComponentLink4Description: https://datasheet.ciiva.com/16740/dcrcwe3-16740661.pdf?src-supplier=Future+Electronics; ComponentLink5URL: https://datasheet.ciiva.com/26316/fld-crcw-e3-data-en-26316582.pdf?src-supplier=Distrelec; ComponentLink5Description: https://datasheet.ciiva.com/26316/fld-crcw-e3-data-en-26316582.pdf?src-supplier=Distrelec; ComponentLink6URL: https://datasheet.ciiva.com/3256/dcrcwe3-3256955.pdf?src-supplier=Avnet; ComponentLink6Description: https://datasheet.ciiva.com/3256/dcrcwe3-3256955.pdf?src-supplier=Avnet; ComponentLink7URL: https://datasheet.ciiva.com/5547/dcrcwe3-109170-5547342.pdf?src-supplier=Mouser; ComponentLink7Description: https://datasheet.ciiva.com/5547/dcrcwe3-109170-5547342.pdf?src-supplier=Mouser; ComponentLink8URL: https://datasheet.ciiva.com/22673/1697337-22673071.pdf?src-supplier=Element14; ComponentLink8Description: https://datasheet.ciiva.com/22673/1697337-22673071.pdf?src-supplier=Element14; ComponentLink9URL: https://datasheet.ciiva.com/16781/70201119-16781847.pdf?src-supplier=Allied+Electronics; ComponentLink9Description: https://datasheet.ciiva.com/16781/70201119-16781847.pdf?src-supplier=Allied+Electronics; ComponentLink10URL: https://datasheet.ciiva.com/2465/dcrcwe3-2465701.pdf?src-supplier=Digi-Key; ComponentLink10Description: https://datasheet.ciiva.com/2465/dcrcwe3-2465701.pdf?src-supplier=Digi-Key; Supplier Part Number 1: 541-10.0HCT-ND
footprint R0603
pins: 1, 2

## R100_1%_1/8W_0603
designator R?  value 100R  (hidden comment: R100_1%_1/8W_0603)
100 Ohms ±1% 0.125W, 1/8W Chip Resistor 0603 (1608 Metric) Anti-Sulfur Thin Film; Partnumber: MCT06030C1000FP500; Supplier 1: Digi-Key; Supplier Part Number 1: MCT0603-100-CFCT-ND
footprint R0603
pins: 1, 2

## R1000k_1%_1/8W_0805
designator R?, comment 1M
RES 1000K OHM 1/8W 1% 0805; Partnumber: RMCF0805FG1M00; NCM: 8533.21.20
footprint 0805
pins: 1, 2

## RS02B24R00FE12
designator Heater?  Power rating: 3W  Temperature Coefficient: 20ppm/ °C
Wirewound Resistors - Through Hole 3watts 24ohms 1%; Manufacturer_Name: Vishay; Resistance: 24R; Datasheet Link: https://www.vishay.com/docs/30204/rsns.pdf; Manufacturer_Part_Number: RS02B24R00FE12; Arrow Part Number: RS02B24R00FE12; Partnumber: RS02B24R00FE12
footprint RESAD3322W86L1422D475
pins: 1, 2

## TEST_POINT
designator TP?  (value not drawn)  (no BOM)
Test Point
footprint Test_Point
pins: 1